# Altium footprint library connector.PcbLib: 180 footprints (part 9 of 12)
Each footprint in its own frame and in the unit in brackets; x right, y up, seen from the top. Pads: shape width x height; smd on the part's side, far side on the other; paste and mask are expansions set on the pad; w line width, h text height; cw(c..) or ccw(c..) is an arc to the next point about the centre after c.
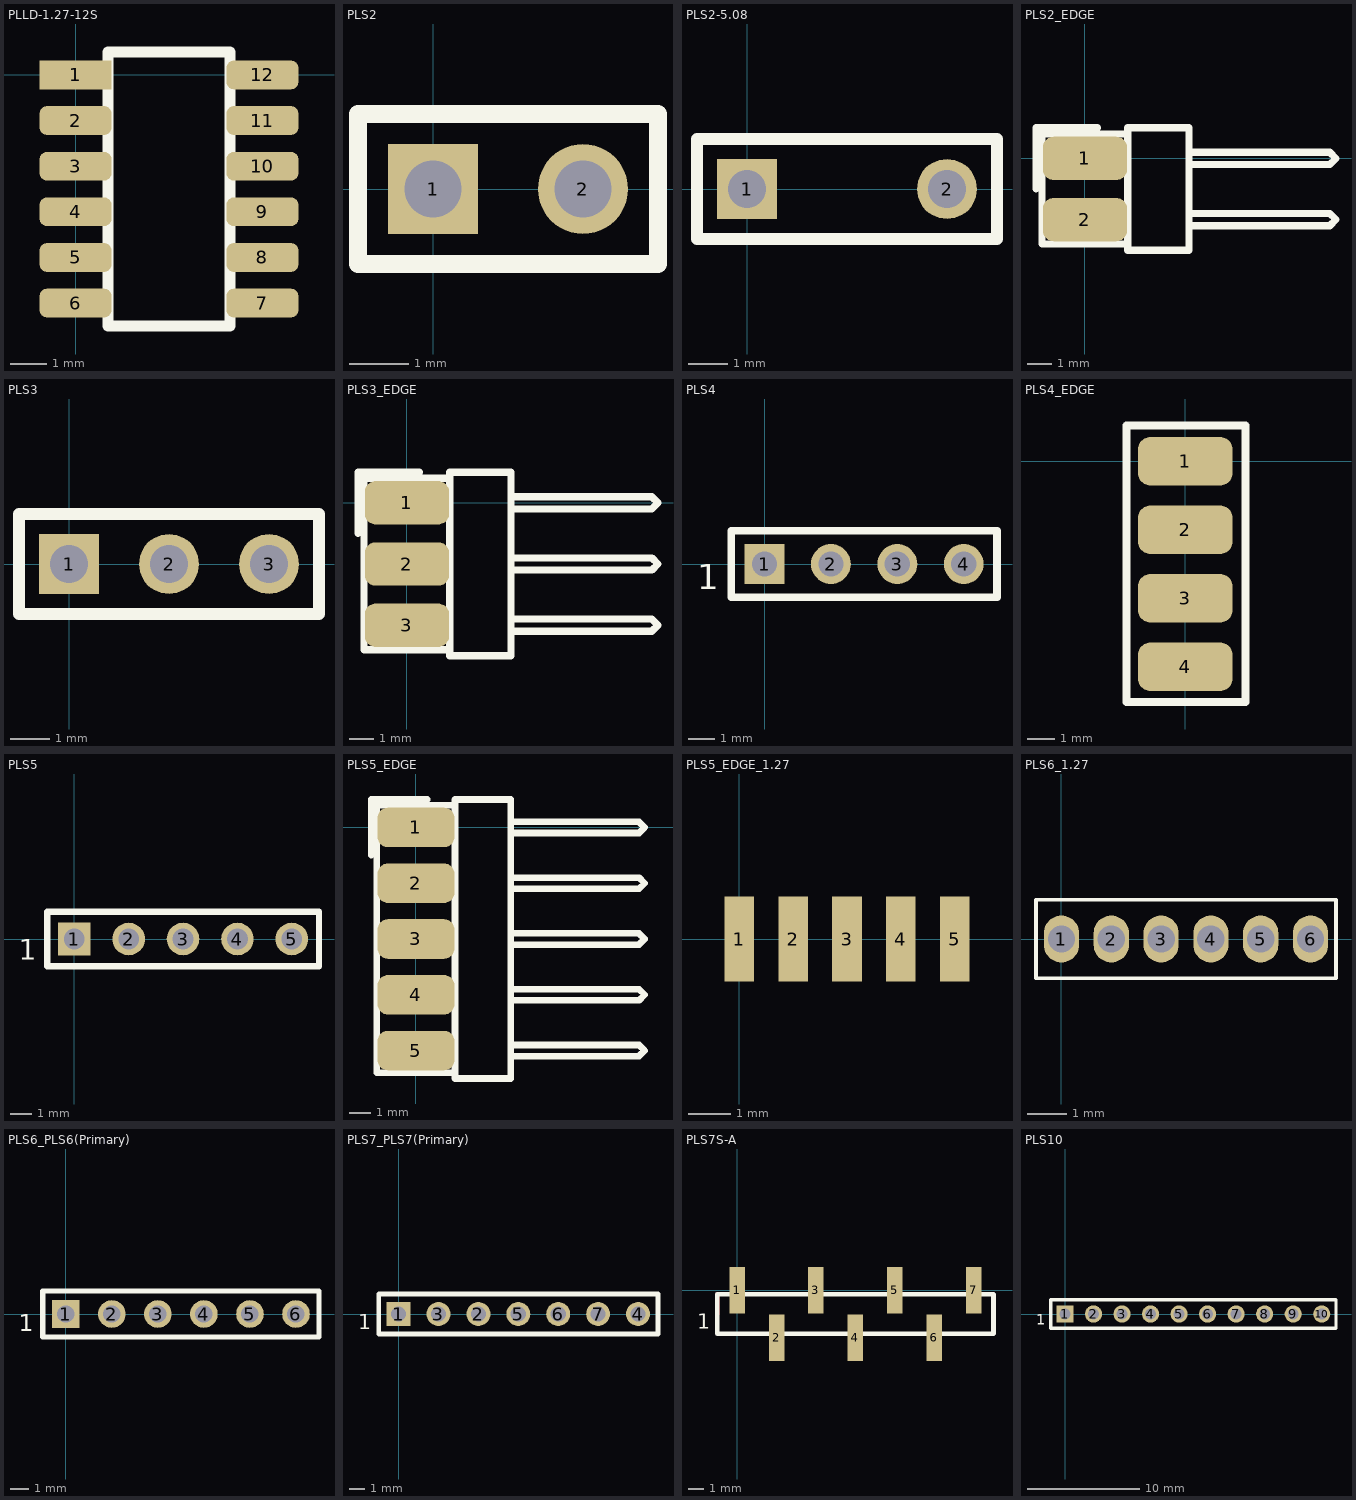
[diagram p8: the footprints below, top view; thin cyan lines are the x and y axes]

## PLLD-1.27-12S [mm]
pads (12):
  rect 2x0.8 smd: 1(0,0)
  rrect50% 2x0.8 smd: 2(0,-1.27) 3(0,-2.54) 4(0,-3.81) 5(0,-5.08) 6(0,-6.35) 7(5.2,-6.35) 8(5.2,-5.08) 9(5.2,-3.81) 10(5.2,-2.54) 11(5.2,-1.27) 12(5.2,0)
Top Overlay:
  lines w0.3: 0.9,-6.985 0.9,0.635 4.3,0.635 4.3,-6.985 0.9,-6.985

## PLS2 [mil]
pads (2):
  rect 60x60 hole 38: 1(0,0)
  round 60 hole 38: 2(100,0)
Top Overlay:
  lines w11.81: -50,-50 -50,50 150,50 150,-50 -50,-50
3D body "User Library-PLS-2.step": height 336.22, standoff -118.11, extent -49.8,-50.79 150.2,49.21

## PLS2-5.08 [mil]
pads (2):
  rect 60x60 hole 38: 1(0,0)
  round 60 hole 38: 2(200,0)
Top Overlay:
  lines w11.81: -50,-50 250,-50 250,50 -50,50 -50,-50

## PLS2_EDGE [mm]
pads (2):
  rrect50% 3.5x1.8 smd: 1(0,0) 2(0,-2.54)
Top Overlay:
  lines w0.3: -2.032,-1.27 -2.032,1.27 0.508,1.27 ; 1.778,-3.556 -1.778,-3.556 -1.778,1.016 1.778,1.016 ; 4.318,-2.794 10.16,-2.794 10.414,-2.54 10.16,-2.286 4.318,-2.286 ; 4.318,-0.254 10.16,-0.254 10.414,0 10.16,0.254 4.318,0.254 ; 1.778,-3.81 4.318,-3.81 4.318,1.27 1.778,1.27 1.778,-3.81

## PLS3 [mil]
pads (3):
  rect 60x60 hole 38: 1(0,0)
  round 60 hole 38: 2(100,0) 3(200,0)
Top Overlay:
  lines w11.81: -50,-50 -50,50 250,50 250,-50 -50,-50
3D body "User Library-PLS-3.step": height 336.22, standoff -118.11, extent -50.59,-49.8 249.41,50.2

## PLS3_EDGE [mm]
pads (3):
  rrect50% 3.5x1.8 smd: 1(0,0) 2(0,-2.54) 3(0,-5.08)
Top Overlay:
  lines w0.3: -2.032,-1.27 -2.032,1.27 0.508,1.27 ; 1.778,-6.096 -1.778,-6.096 -1.778,1.016 1.778,1.016 ; 4.318,-5.334 10.16,-5.334 10.414,-5.08 10.16,-4.826 4.318,-4.826 ; 4.318,-2.794 10.16,-2.794 10.414,-2.54 10.16,-2.286 4.318,-2.286 ; 4.318,-0.254 10.16,-0.254 10.414,0 10.16,0.254 4.318,0.254 ; 1.778,-6.35 4.318,-6.35 4.318,1.27 1.778,1.27 1.778,-6.35

## PLS4 [mil]
pads (4):
  rect 60x60 hole 38: 1(0,0)
  round 60 hole 38: 2(100,0) 3(200,0) 4(300,0)
Top Overlay:
  lines w11.81: -50,-50 -50,50 350,50 350,-50 -50,-50
  text "1" at -101.67,-37.93 h37.5

## PLS4_EDGE [mm]
pads (4):
  rrect50% 3.5x1.8 smd: 1(0,0) 2(0,-2.54) 3(0,-5.08) 4(0,-7.62)
Top Overlay:
  lines w0.3: -2.175,-8.925 2.225,-8.925 2.225,1.325 -2.175,1.325 -2.175,-8.925

## PLS5 [mil]
pads (5):
  rect 60x60 hole 38: 1(0,0)
  round 60 hole 38: 2(100,0) 3(200,0) 4(300,0) 5(400,0)
Top Overlay:
  lines w11.81: -50,-50 450,-50 450,50 -50,50 -50,-50
  text "1" at -101.67,-37.93 h37.5

## PLS5_EDGE [mm]
pads (5):
  rrect50% 3.5x1.8 smd: 1(0,0) 2(0,-2.54) 3(0,-5.08) 4(0,-7.62) 5(0,-10.16)
Top Overlay:
  lines w0.3: -2.032,-1.27 -2.032,1.27 0.508,1.27 ; 1.778,-11.176 -1.778,-11.176 -1.778,1.016 1.778,1.016 ; 4.318,-10.414 10.16,-10.414 10.414,-10.16 10.16,-9.906 4.318,-9.906 ; 4.318,-7.874 10.16,-7.874 10.414,-7.62 10.16,-7.366 4.318,-7.366 ; 4.318,-5.334 10.16,-5.334 10.414,-5.08 10.16,-4.826 4.318,-4.826 ; 4.318,-2.794 10.16,-2.794 10.414,-2.54 10.16,-2.286 4.318,-2.286 ; 4.318,-0.254 10.16,-0.254 10.414,0 10.16,0.254 4.318,0.254 ; 1.778,-11.43 1.778,1.27 4.318,1.27 4.318,-11.43 1.778,-11.43

## PLS5_EDGE_1.27 [mm]
pads (5):
  rect 0.7x2 smd: 1(0,0) 2(1.27,0) 3(2.54,0) 4(3.81,0) 5(5.08,0)

## PLS6_1.27 [mm]
pads (6):
  oval 0.9x1.2 hole 0.7: 1(0,0) 2(1.27,0) 3(2.54,0) 4(3.81,0) 5(5.08,0) 6(6.35,0)
Top Overlay:
  lines w0.1: -0.65,-1 -0.65,1 7,1 7,-1 -0.65,-1

## PLS6_PLS6(Primary) [mil]
pads (6):
  rect 60x60 hole 38: 1(0,0)
  round 60 hole 38: 2(100,0) 3(200,0) 4(300,0) 5(400,0) 6(500,0)
Top Overlay:
  lines w11.81: -50,-50 -50,50 550,50 550,-50 -50,-50
  text "1" at -101.67,-37.93 h37.5

## PLS7_PLS7(Primary) [mil]
pads (7):
  rect 60x60 hole 38: 1(0,0)
  round 60 hole 38: 2(200,0) 3(100,0) 4(600,0) 5(300,0) 6(400,0) 7(500,0)
Top Overlay:
  lines w11.81: -50,-50 650,-50 650,50 -50,50 -50,-50
  text "1" at -101.67,-37.93 h37.5

## PLS7S-A [mm]
pads (7):
  rect 1x3 smd: 1(0,0) 2(2.54,-3.048) 3(5.08,0) 4(7.62,-3.048) 5(10.16,0) 6(12.7,-3.048) 7(15.24,0)
Top Layer:
  lines w0.3: -1.27,-1.524 -1.27,-0.254
Top Overlay:
  lines w0.3: -1.27,-2.794 -1.27,-0.254 16.51,-0.254 16.51,-2.794 -1.27,-2.794
  text "1" at -2.582,-2.487 h0.95

## PLS10 [mil]
pads (10):
  rect 60x60 hole 38: 1(0,0)
  round 60 hole 38: 2(100,0) 3(200,0) 4(300,0) 5(400,0) 6(500,0) 7(600,0) 8(700,0) 9(800,0) 10(900,0)
Top Overlay:
  lines w11.81: -50,-50 950,-50 950,50 -50,50 -50,-50
  text "1" at -101.67,-37.93 h37.5